# Altium integrated library BMI055.IntLib: 1 symbol
Pins are listed as number, name and electrical type; pins without a type are passive.

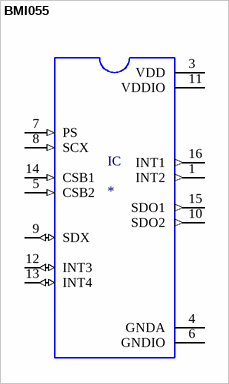
[diagram p0: symbol BMI055]

## BMI055
designator IC
Accelerometer, Gyroscope, 6 Axis Sensor IÂ²C, SPI Output; MP: BMI055; MF: Bosch; Package: LGA-16 Bosch; Digi-Key_Purchase_URL: https://www.digikey.com.cn/product-detail/zh/bosch-sensortec/BMI055/828-1043-1-ND/4196679?utm_source=snapeda&utm_medium=aggregator&utm_campaign=symbol; Value: *; Digi-Key_Part_Number: 828-1043-1-ND; SnapEDA_Link: https://www.snapeda.com/parts/BMI055/Bosch%20Sensortec/view-part/48228/?ref=snap
footprint QFN50P300X450X100-16N
pins: 1 INT2 (out), 3 VDD (power), 4 GNDA, 5 CSB2 (in), 6 GNDIO, 7 PS (in), 8 SCX (in), 9 SDX (io), 10 SDO2 (out), 11 VDDIO (power), 12 INT3 (io), 13 INT4 (io), 14 CSB1 (in), 15 SDO1 (out), 16 INT1 (out)